# Altium schematic symbol library IC_ON_Semiconductor_NLASB3157MTR2G_Switch.SchLib: 1 symbol
Pins are listed as number, name and electrical type; pins without a type are passive.

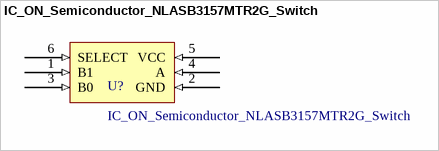
[diagram p0: symbol IC_ON_Semiconductor_NLASB3157MTR2G_Switch]

## IC_ON_Semiconductor_NLASB3157MTR2G_Switch
designator U?
Analog Switch ICs LOG CMOS 2:1 MLTPLXR; Supplier 1: Mouser; Supplier Part Number 1: 863-NLASB3157MTR2G
pins: 1 B1 (in), 2 GND (in), 3 B0 (in), 4 A (in), 5 VCC (in), 6 SELECT (in)